# Altium footprint library PCB - SWITCH - C&K SK-12F17-G 7.PcbLib: 1 footprints
Each footprint in its own frame and in the unit in brackets; x right, y up, seen from the top. Pads: shape width x height; smd on the part's side, far side on the other; paste and mask are expansions set on the pad; w line width, h text height; cw(c..) or ccw(c..) is an arc to the next point about the centre after c.
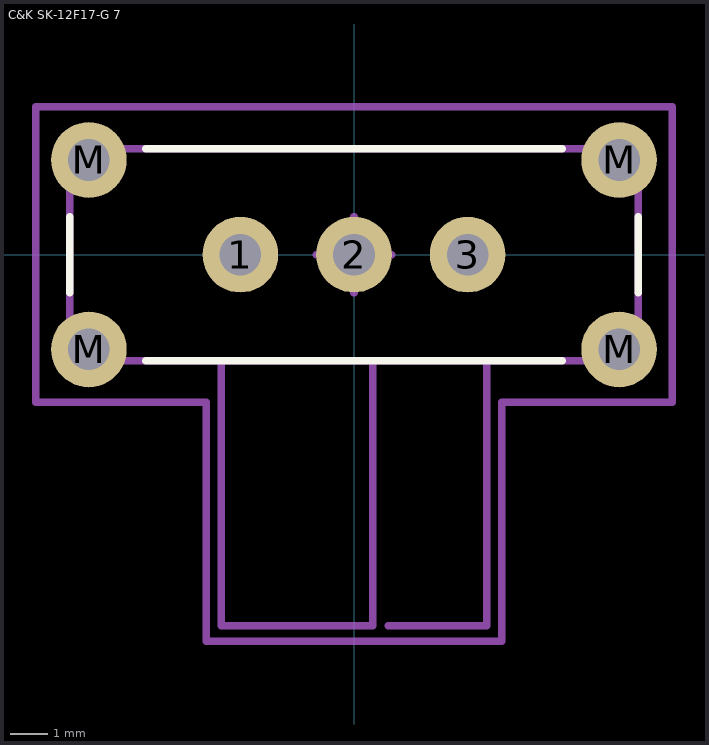
[diagram p0: the footprint, top view; thin cyan lines are the x and y axes]

## C&K SK-12F17-G 7 [mm] "SWITCH SLIDE SPDT 300MA 30V"
height 8
pads (7):
  round 2 hole 1.1: 1(-3,0) 2(0,0) 3(3,0) M(-7,-2.5) M(-7,2.5) M(7,-2.5) M(7,2.5)
Top Overlay:
  lines w0.2: -7.5,-1 -7.5,1 ; -5.5,-2.8 5.5,-2.8 ; -5.5,2.8 5.5,2.8 ; 7.5,-1 7.5,1
Mechanical 13:
  lines w0.2: -3.5,-2.8 -3.5,-9.8 0.5,-9.8 0.5,-2.8 ; 0.9,-9.8 3.5,-9.8 3.5,-2.8 ; -7.5,-2.8 -7.5,2.8 7.5,2.8 7.5,-2.8 -7.5,-2.8
Mechanical 15:
  lines w0.2: -1,0 1,0 ; 0,-1 0,1 ; -8.4,-3.9 -8.4,3.9 8.4,3.9 8.4,-3.9 3.9,-3.9 3.9,-10.2 -3.9,-10.2 -3.9,-3.9 -8.4,-3.9
3D body "C&K SK-12F17-G 7.step": height 8, standoff -3.3, extent -7.5,-9.8 7.5,2.8